# Altium footprint library MMCX-J-P-H-ST-TH1.PcbLib: 1 footprints
Each footprint in its own frame and in the unit in brackets; x right, y up, seen from the top. Pads: shape width x height; smd on the part's side, far side on the other; paste and mask are expansions set on the pad; w line width, h text height; cw(c..) or ccw(c..) is an arc to the next point about the centre after c.
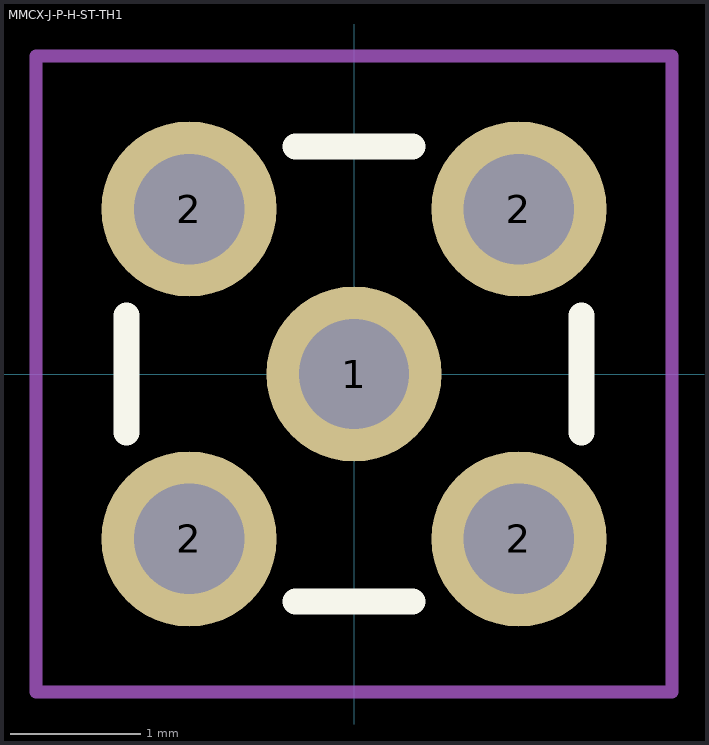
[diagram p0: the footprint, top view; thin cyan lines are the x and y axes]

## MMCX-J-P-H-ST-TH1 [mm]
height 4.35
pads (5):
  round 1.35 hole 0.85: 1(0,0) 2(-1.27,-1.27) 2(-1.27,1.27) 2(1.27,-1.27) 2(1.27,1.27)
Top Overlay:
  lines w0.2: -1.75,-0.45 -1.75,0.45 ; -0.45,-1.75 0.45,-1.75 ; -0.45,1.75 0.45,1.75 ; 1.75,-0.45 1.75,0.45
Top Courtyard:
  lines w0.1: -2.45,-2.45 -2.45,2.45 2.45,2.45 2.45,-2.45 -2.45,-2.45
3D body "MMCX-J-P-H-ST-TH1.stp": height 4.35, standoff -3.05, extent -1.75,-1.75 1.75,1.75